# Altium integrated library Integrated_Library.IntLib: 6 symbols
Pins are listed as number, name and electrical type; pins without a type are passive.

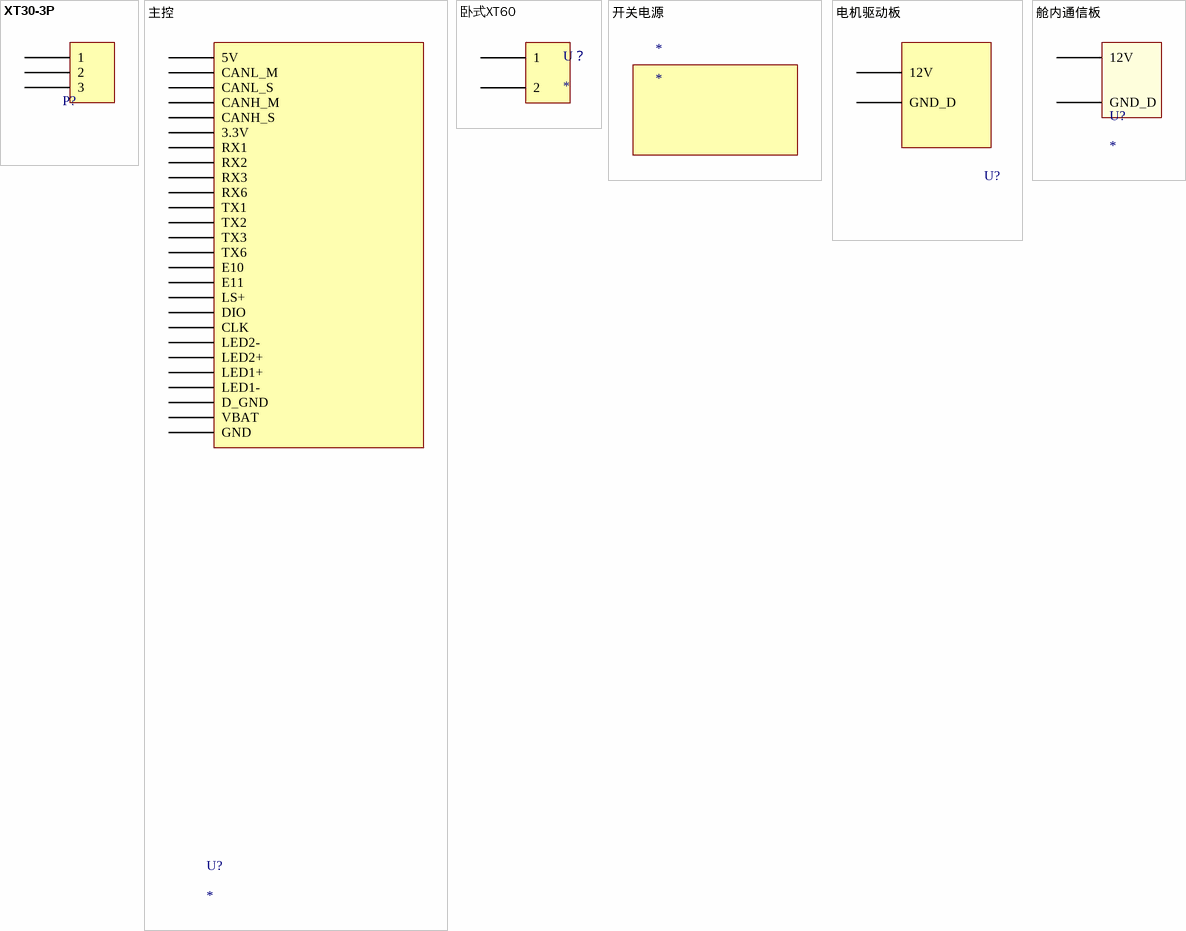
[diagram p0: symbols XT30-3P to 舱内通信板]

## XT30-3P
designator P?
footprint XT30-3P
pins: 1, 2, 3

## 主控
designator U?
footprint 主控
pins: 1 5V, 2 CANL_M, 3 CANL_S, 4 CANH_M, 5 CANH_S, 6 3.3V, 7 RX1, 8 RX2, 9 RX3, 10 RX6, 11 TX1, 12 TX2, 13 TX3, 14 TX6, 15 E10, 16 E11, 17 LS+, 18 DIO, 19 CLK, 20 LED2-, 21 LED2+, 22 LED1+, 23 LED1-, 24 D_GND, 25 VBAT, 26 GND

## 卧式XT60
designator U？
footprint 卧式XT60
pins: 1, 2

## 开关电源
designator *
footprint 开关电源

## 电机驱动板
designator U?
footprint 电机驱动板
pins: 1 12V, 2 GND_D

## 舱内通信板
designator U?
footprint 舱内通信板
pins: 1 12V, 2 GND_D